# Altium footprint library PCB - CRYSTALS - ABRACON ABS07.PCBLIB: 1 footprints
Each footprint in its own frame and in the unit in brackets; x right, y up, seen from the top. Pads: shape width x height; smd on the part's side, far side on the other; paste and mask are expansions set on the pad; w line width, h text height; cw(c..) or ccw(c..) is an arc to the next point about the centre after c.
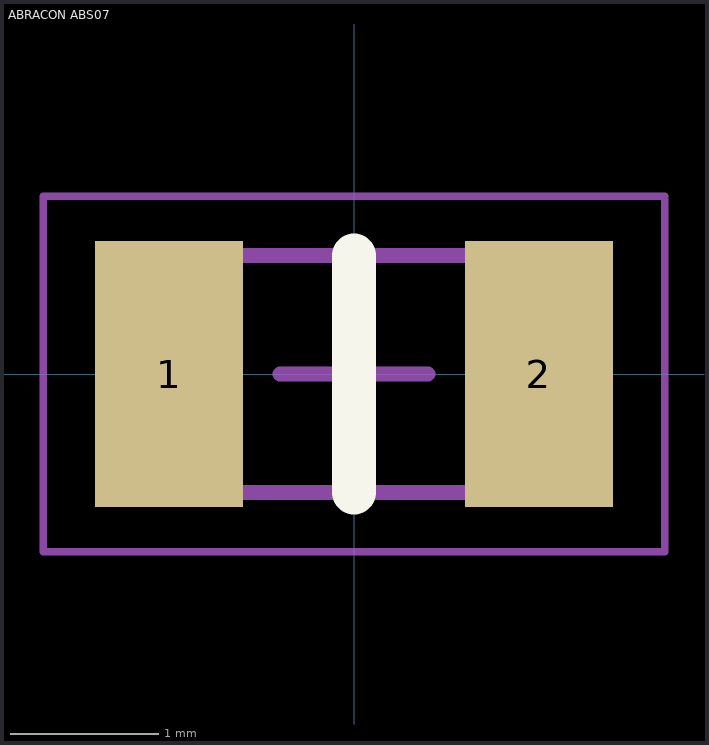
[diagram p0: the footprint, top view; thin cyan lines are the x and y axes]

## ABRACON ABS07 [mm] "Crystal, 2-Leads, Body 3.20x1.50mm, IPC Medium Density"
height 0.9
pads (2):
  rect 1x1.8 smd: 1(-1.25,0) 2(1.25,0)
Top Overlay:
  lines w0.3: 0,-0.8 0,0.8
Top Assembly:
  lines w0.1: -1.65,-0.8 1.65,-0.8 1.65,0.8 -1.65,0.8 -1.65,-0.8
  text ".Designator" at -3.425,-0.344 h1.52
Top Courtyard:
  lines w0.05: -2.1,-1.2 2.1,-1.2 2.1,1.2 -2.1,1.2 -2.1,-1.2
Top Component Center:
  lines w0.1: -0.5,0 0.5,0 ; 0,-0.5 0,0.5
3D body "Abracon ABS07.STEP": height 0.9, standoff 0, extent -1.625,-0.775 1.625,0.775